# EAGLE library part 74LVC4245 (library robotter)
octal transceiver buffer
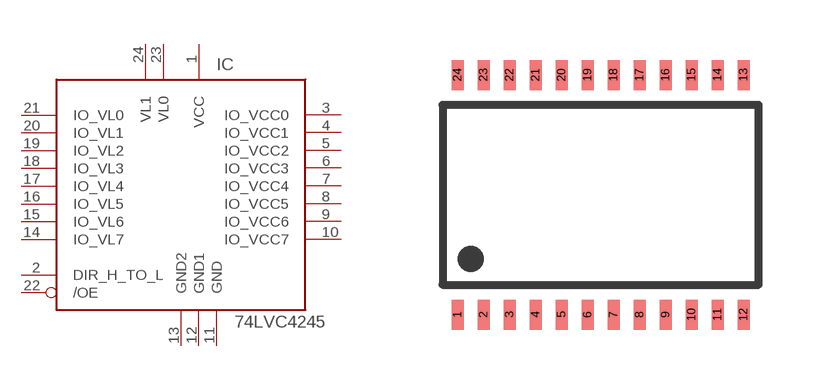
[diagram p5: symbol with the pads of TSSOP24; footprint TSSOP24]

Designator prefix IC

## 74LVC4245A  [TSSOP24]
1  VCC  pwr
2  DIR_H_TO_L
3  IO_VCC0
4  IO_VCC1
5  IO_VCC2
6  IO_VCC3
7  IO_VCC4
8  IO_VCC5
9  IO_VCC6
10  IO_VCC7
11  GND  pwr
12  GND1  pwr
13  GND2  pwr
14  IO_VL7
15  IO_VL6
16  IO_VL5
17  IO_VL4
18  IO_VL3
19  IO_VL2
20  IO_VL1
21  IO_VL0
22  /OE
23  VL0  pwr
24  VL1  pwr

## Footprint TSSOP24 (pad centres in mm)
smd 0.3 x 0.75: 1 -3.575,-3; 2 -2.925,-3; 3 -2.275,-3; 4 -1.625,-3; 5 -0.975,-3; 6 -0.325,-3; 7 0.325,-3; 8 0.975,-3; 9 1.625,-3; 10 2.275,-3; 11 2.925,-3; 12 3.575,-3; 13 3.575,3; 14 2.925,3; 15 2.275,3; 16 1.625,3; 17 0.975,3; 18 0.325,3; 19 -0.325,3; 20 -0.975,3; 21 -1.625,3; 22 -2.275,3; 23 -2.925,3; 24 -3.575,3